# Altium footprint library PCF8575DB.PcbLib: 1 footprints
Each footprint in its own frame and in the unit in brackets; x right, y up, seen from the top. Pads: shape width x height; smd on the part's side, far side on the other; paste and mask are expansions set on the pad; w line width, h text height; cw(c..) or ccw(c..) is an arc to the next point about the centre after c.
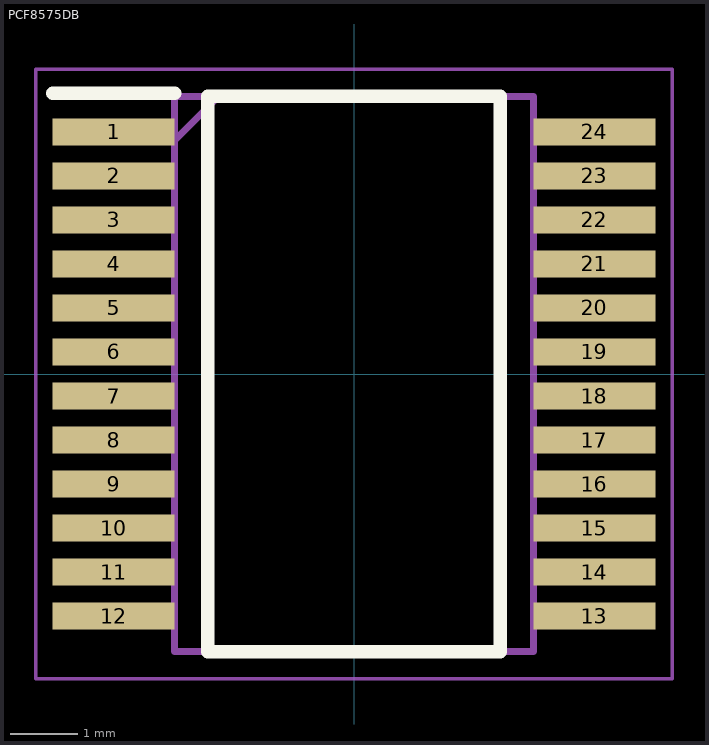
[diagram p0: the footprint, top view; thin cyan lines are the x and y axes]

## PCF8575DB [mm]
pads (24):
  rect 1.8x0.399 smd: 1(-3.55,3.575) 2(-3.55,2.925) 3(-3.55,2.275) 4(-3.55,1.625) 5(-3.55,0.975) 6(-3.55,0.325) 7(-3.55,-0.325) 8(-3.55,-0.975) 9(-3.55,-1.625) 10(-3.55,-2.275) 11(-3.55,-2.925) 12(-3.55,-3.575) 13(3.55,-3.575) 14(3.55,-2.925) 15(3.55,-2.275) 16(3.55,-1.625) 17(3.55,-0.975) 18(3.55,-0.325) 19(3.55,0.325) 20(3.55,0.975) 21(3.55,1.625) 22(3.55,2.275) 23(3.55,2.925) 24(3.55,3.575)
Top Overlay:
  lines w0.2: -4.45,4.15 -2.65,4.15 ; -2.159,-4.1 2.159,-4.1 2.159,4.1 -2.159,4.1 -2.159,-4.1
Mechanical 13:
  lines w0.1: -2.65,3.45 -2,4.1 ; -2.65,-4.1 2.65,-4.1 2.65,4.1 -2.65,4.1 -2.65,-4.1
Mechanical 15:
  lines w0.05: -4.7,-4.5 4.7,-4.5 4.7,4.5 -4.7,4.5 -4.7,-4.5
3D body "PCF8575DB.stp": height 1.86, standoff 0, extent -3.913,-4.1 3.913,4.1